# EAGLE library part PCIE-64 (library LIC_ALL-00)
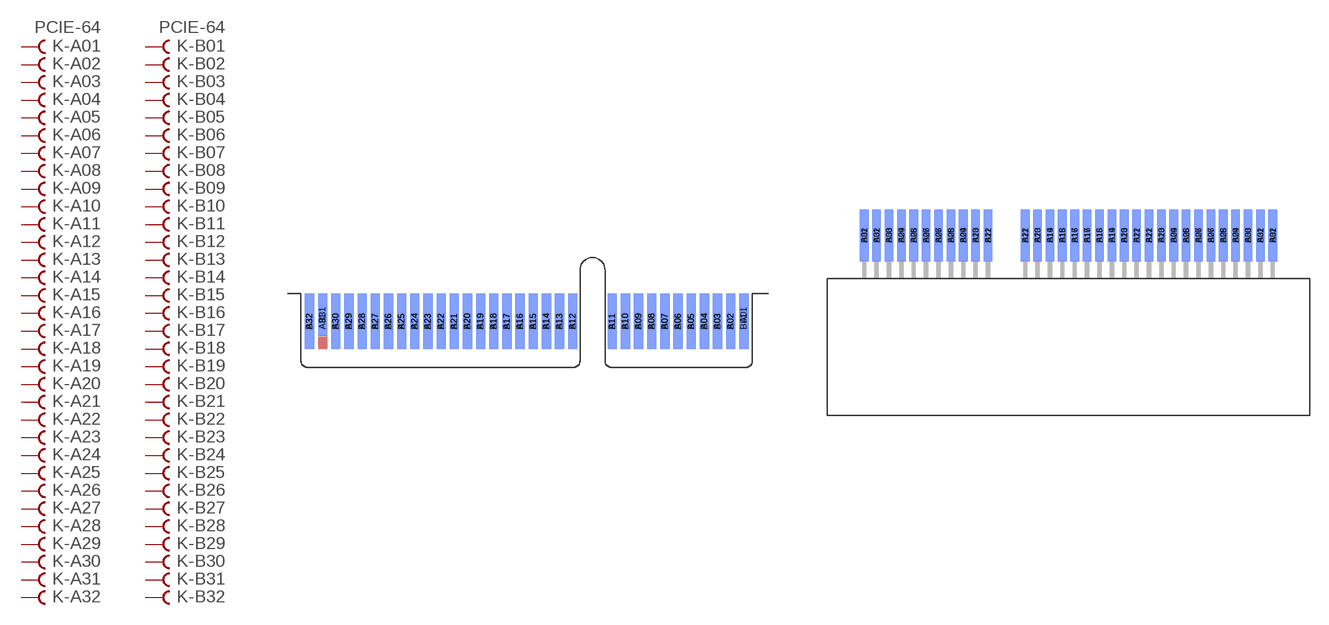
[diagram p0: symbol with the pads of PCIE-064-EMS; footprints PCIE-064-EMS, PCIE-064-EMS2]

Designator prefix K; gates -A01=FVAL -A02=FEM -A03=FEM -A04=FEM -A05=FEM -A06=FEM -A07=FEM -A08=FEM -A09=FEM -A10=FEM -A11=FEM -A12=FEM -A13=FEM -A14=FEM -A15=FEM -A16=FEM -A17=FEM -A18=FEM -A19=FEM -A20=FEM -A21=FEM -A22=FEM -A23=FEM -A24=FEM -A25=FEM -A26=FEM -A27=FEM -A28=FEM -A29=FEM -A30=FEM -A31=FEM -A32=FEM -B01=FVAL -B02=FEM -B03=FEM -B04=FEM -B05=FEM -B06=FEM -B07=FEM -B08=FEM -B09=FEM -B10=FEM -B11=FEM -B12=FEM -B13=FEM -B14=FEM -B15=FEM -B16=FEM -B17=FEM -B18=FEM -B19=FEM -B20=FEM -B21=FEM -B22=FEM -B23=FEM -B24=FEM -B25=FEM -B26=FEM -B27=FEM -B28=FEM -B29=FEM -B30=FEM -B31=FEM -B32=FEM

## PCIE-64EDGE_MOUNTON-BOARD  [PCIE-064-EMS]
A01  -A01:B  pas
A02  -A02:B  pas
A03  -A03:B  pas
A04  -A04:B  pas
A05  -A05:B  pas
A06  -A06:B  pas
A07  -A07:B  pas
A08  -A08:B  pas
A09  -A09:B  pas
A10  -A10:B  pas
A11  -A11:B  pas
A12  -A12:B  pas
A13  -A13:B  pas
A14  -A14:B  pas
A15  -A15:B  pas
A16  -A16:B  pas
A17  -A17:B  pas
A18  -A18:B  pas
A19  -A19:B  pas
A20  -A20:B  pas
A21  -A21:B  pas
A22  -A22:B  pas
A23  -A23:B  pas
A24  -A24:B  pas
A25  -A25:B  pas
A26  -A26:B  pas
A27  -A27:B  pas
A28  -A28:B  pas
A29  -A29:B  pas
A30  -A30:B  pas
A31  -A31:B  pas
A32  -A32:B  pas
B01  -B32:B  pas
B02  -B31:B  pas
B03  -B30:B  pas
B04  -B29:B  pas
B05  -B28:B  pas
B06  -B27:B  pas
B07  -B26:B  pas
B08  -B25:B  pas
B09  -B24:B  pas
B10  -B23:B  pas
B11  -B22:B  pas
B12  -B21:B  pas
B13  -B20:B  pas
B14  -B19:B  pas
B15  -B18:B  pas
B16  -B17:B  pas
B17  -B16:B  pas
B18  -B15:B  pas
B19  -B14:B  pas
B20  -B13:B  pas
B21  -B12:B  pas
B22  -B11:B  pas
B23  -B10:B  pas
B24  -B09:B  pas
B25  -B08:B  pas
B26  -B07:B  pas
B27  -B06:B  pas
B28  -B05:B  pas
B29  -B04:B  pas
B30  -B03:B  pas
B31  -B02:B  pas
B32  -B01:B  pas

## PCIE-64LAYOUT  [PCIE-064-EMS2]
A01  -A01:B  pas
A02  -A02:B  pas
A03  -A03:B  pas
A04  -A04:B  pas
A05  -A05:B  pas
A06  -A06:B  pas
A07  -A07:B  pas
A08  -A08:B  pas
A09  -A09:B  pas
A10  -A10:B  pas
A11  -A11:B  pas
A12  -A12:B  pas
A13  -A13:B  pas
A14  -A14:B  pas
A15  -A15:B  pas
A16  -A16:B  pas
A17  -A17:B  pas
A18  -A18:B  pas
A19  -A19:B  pas
A20  -A20:B  pas
A21  -A21:B  pas
A22  -A22:B  pas
A23  -A23:B  pas
A24  -A24:B  pas
A25  -A25:B  pas
A26  -A26:B  pas
A27  -A27:B  pas
A28  -A28:B  pas
A29  -A29:B  pas
A30  -A30:B  pas
A31  -A31:B  pas
A32  -A32:B  pas
B01  -B01:B  pas
B02  -B02:B  pas
B03  -B03:B  pas
B04  -B04:B  pas
B05  -B05:B  pas
B06  -B06:B  pas
B07  -B07:B  pas
B08  -B08:B  pas
B09  -B09:B  pas
B10  -B10:B  pas
B11  -B11:B  pas
B12  -B12:B  pas
B13  -B13:B  pas
B14  -B14:B  pas
B15  -B15:B  pas
B16  -B16:B  pas
B17  -B17:B  pas
B18  -B18:B  pas
B19  -B19:B  pas
B20  -B20:B  pas
B21  -B21:B  pas
B22  -B22:B  pas
B23  -B23:B  pas
B24  -B24:B  pas
B25  -B25:B  pas
B26  -B26:B  pas
B27  -B27:B  pas
B28  -B28:B  pas
B29  -B29:B  pas
B30  -B30:B  pas
B31  -B31:B  pas
B32  -B32:B  pas

## Footprint PCIE-064-EMS (pad centres in mm)
smd 0.7 x 3.2: A01 11.5,4
smd 0.7 x 4.2: A02 10.5,3.5; A03 9.5,3.5; A04 8.5,3.5; A05 7.5,3.5; A06 6.5,3.5; A07 5.5,3.5; A08 4.5,3.5; A09 3.5,3.5; A10 2.5,3.5; A11 1.5,3.5; A12 -1.5,3.5; A13 -2.5,3.5; A14 -3.5,3.5; A15 -4.5,3.5; A16 -5.5,3.5; A17 -6.5,3.5; A18 -7.5,3.5; A19 -8.5,3.5; A20 -9.5,3.5; A21 -10.5,3.5; A22 -11.5,3.5; A23 -12.5,3.5; A24 -13.5,3.5; A25 -14.5,3.5; A26 -15.5,3.5; A27 -16.5,3.5; A28 -17.5,3.5; A29 -18.5,3.5; A30 -19.5,3.5; A31 -20.5,3.5; A32 -21.5,3.5
smd 0.7 x 4.2 bottom: B01 11.5,3.5; B02 10.5,3.5; B03 9.5,3.5; B04 8.5,3.5; B05 7.5,3.5; B06 6.5,3.5; B07 5.5,3.5; B08 4.5,3.5; B09 3.5,3.5; B10 2.5,3.5; B11 1.5,3.5; B12 -1.5,3.5; B13 -2.5,3.5; B14 -3.5,3.5; B15 -4.5,3.5; B16 -5.5,3.5; B17 -6.5,3.5; B18 -7.5,3.5; B19 -8.5,3.5; B20 -9.5,3.5; B21 -10.5,3.5; B22 -11.5,3.5; B23 -12.5,3.5; B24 -13.5,3.5; B25 -14.5,3.5; B26 -15.5,3.5; B27 -16.5,3.5; B28 -17.5,3.5; B29 -18.5,3.5; B30 -19.5,3.5; B32 -21.5,3.5
smd 0.7 x 3.2 bottom: B31 -20.5,4

## Footprint PCIE-064-EMS2 (pad centres in mm)
smd 0.7 x 4.2: A01 -11.5,3.5; A02 -10.5,3.5; A03 -9.5,3.5; A04 -8.5,3.5; A05 -7.5,3.5; A06 -6.5,3.5; A07 -5.5,3.5; A08 -4.5,3.5; A09 -3.5,3.5; A10 -2.5,3.5; A11 -1.5,3.5; A12 1.5,3.5; A13 2.5,3.5; A14 3.5,3.5; A15 4.5,3.5; A16 5.5,3.5; A17 6.5,3.5; A18 7.5,3.5; A19 8.5,3.5; A20 9.5,3.5; A21 10.5,3.5; A22 11.5,3.5; A23 12.5,3.5; A24 13.5,3.5; A25 14.5,3.5; A26 15.5,3.5; A27 16.5,3.5; A28 17.5,3.5; A29 18.5,3.5; A30 19.5,3.5; A31 20.5,3.5; A32 21.5,3.5
smd 0.7 x 4.2 bottom: B01 21.5,3.5; B02 20.5,3.5; B03 19.5,3.5; B04 18.5,3.5; B05 17.5,3.5; B06 16.5,3.5; B07 15.5,3.5; B08 14.5,3.5; B09 13.5,3.5; B10 12.5,3.5; B11 11.5,3.5; B12 10.5,3.5; B13 9.5,3.5; B14 8.5,3.5; B15 7.5,3.5; B16 6.5,3.5; B17 5.5,3.5; B18 4.5,3.5; B19 3.5,3.5; B20 2.5,3.5; B21 1.5,3.5; B22 -1.5,3.5; B23 -2.5,3.5; B24 -3.5,3.5; B25 -4.5,3.5; B26 -5.5,3.5; B27 -6.5,3.5; B28 -7.5,3.5; B29 -8.5,3.5; B30 -9.5,3.5; B31 -10.5,3.5; B32 -11.5,3.5